# Altium schematic symbol library PH2.0-SMD-6Pin.SchLib: 1 symbol
Pins are listed as number, name and electrical type; pins without a type are passive.

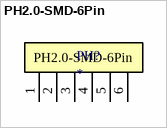
[diagram p0: symbol PH2.0-SMD-6Pin]

## PH2.0-SMD-6Pin
designator PH?
footprint PH2.0-SMD-6Pin
pins: 1, 2, 3, 4, 5, 6